# Altium integrated library screw_m3_0_metal.IntLib: 2 symbols
Pins are listed as number, name and electrical type; pins without a type are passive.

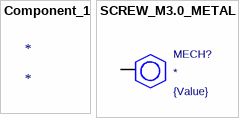
[diagram p0: symbols Component_1 to SCREW_M3.0_METAL]

## Component_1
designator *

## SCREW_M3.0_METAL
designator MECH?  value {Value}
SCREW_M3.0_METAL
footprint SCREW_M3.0_METAL
pins: 1